# Altium footprint library PCB - INDUCTOR - RF - Murata LQP03 0201.PCBLIB: 1 footprints
Each footprint in its own frame and in the unit in brackets; x right, y up, seen from the top. Pads: shape width x height; smd on the part's side, far side on the other; paste and mask are expansions set on the pad; w line width, h text height; cw(c..) or ccw(c..) is an arc to the next point about the centre after c.
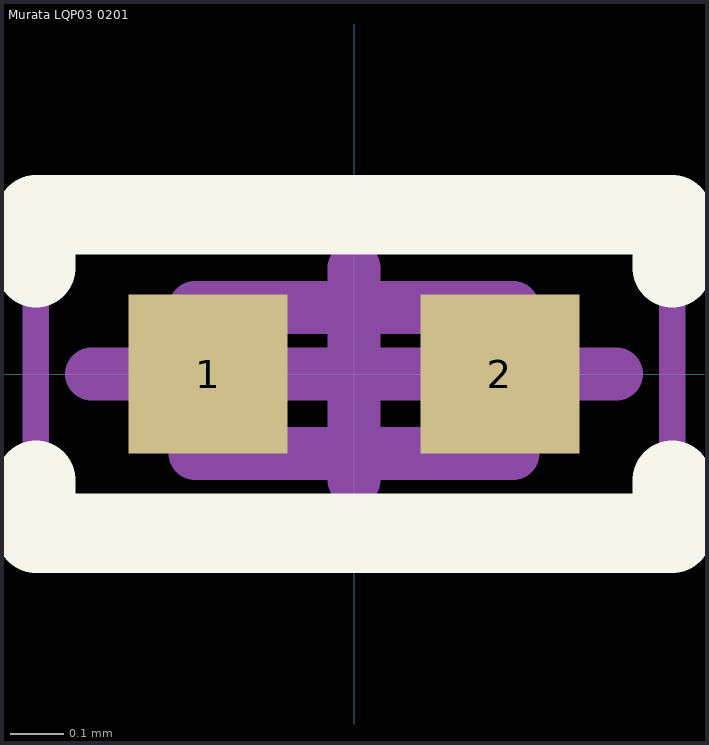
[diagram p0: the footprint, top view; thin cyan lines are the x and y axes]

## Murata LQP03 0201 [mm] "Chip Inductor, 2-Leads, Body 0.6x0.3mm, IPC Medium Density"
height 0.33
pads (2):
  rect 0.3x0.3 smd: 1(-0.275,0) 2(0.275,0)
Top Overlay:
  lines w0.15: -0.6,-0.2 -0.6,-0.3 0.6,-0.3 0.6,-0.2 ; -0.6,0.2 -0.6,0.3 0.6,0.3 0.6,0.2
Mechanical 13:
  lines w0.1: -0.3,-0.15 -0.3,0.125 0.3,0.125 0.3,-0.15 -0.3,-0.15
Mechanical 15:
  lines w0.05: -0.6,-0.3 -0.6,0.3 0.6,0.3 0.6,-0.3 -0.6,-0.3
  lines w0.1: -0.495,0 0.495,0 ; 0,-0.2 0,0.2
3D body "Murata - LQP03.step": height 0.33, standoff 0, extent -0.315,-0.165 0.315,0.165